# Altium footprint library Sucaiku.PcbLib: 51 footprints (part 3 of 4)
Each footprint in its own frame and in the unit in brackets; x right, y up, seen from the top. Pads: shape width x height; smd on the part's side, far side on the other; paste and mask are expansions set on the pad; w line width, h text height; cw(c..) or ccw(c..) is an arc to the next point about the centre after c.
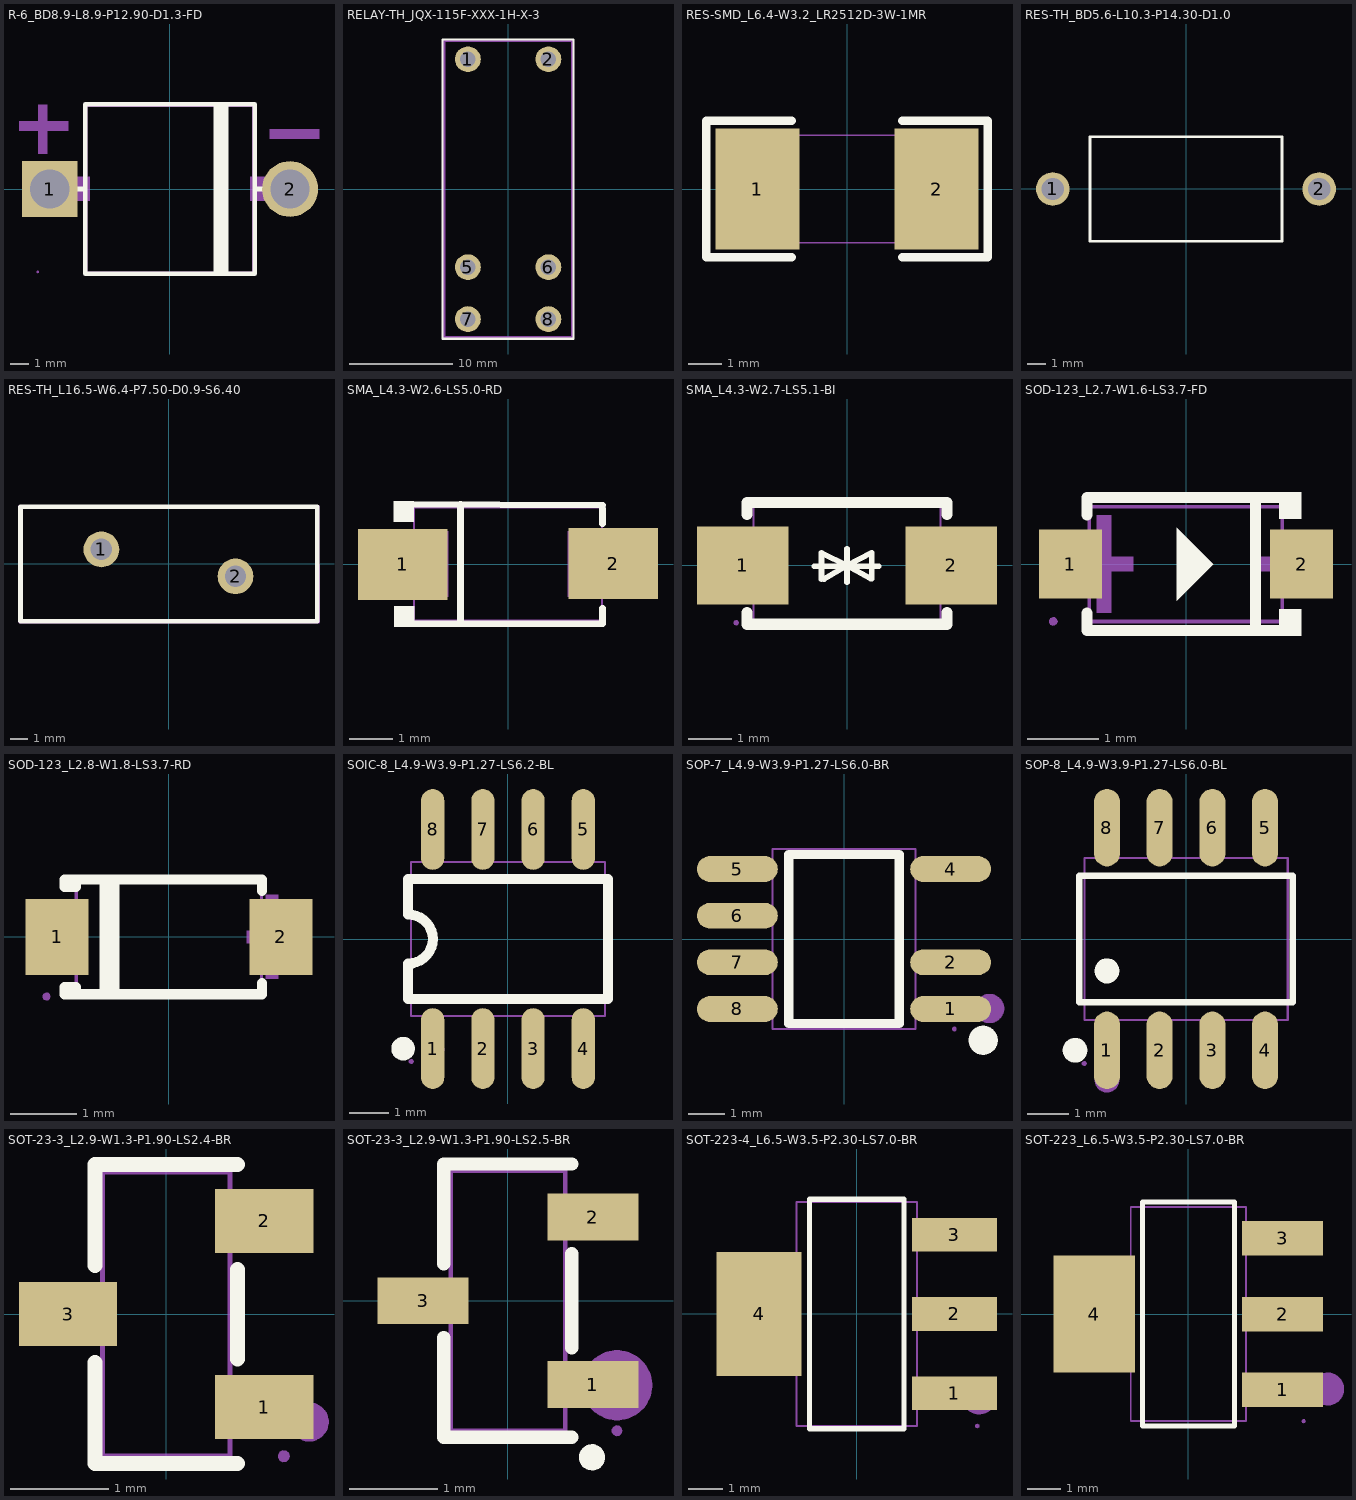
[diagram p2: the footprints below, top view; thin cyan lines are the x and y axes]

## R-6_BD8.9-L8.9-P12.90-D1.3-FD [mil]
pads (2):
  rect 118.1x118.1 hole 82.7: 1(-253.9,0)
  round 118.1 hole 82.7: 2(253.9,0)
Top Overlay:
  lines w10: -220.5,0 -179.1,0 ; 96.9,-179.1 96.9,179.2 ; 105.1,-179.1 105.1,179.2 ; 111.9,-179.2 111.9,179.1 ; 118.9,-179.1 118.9,179.2 ; 180.3,0 220.5,0 ; -179.1,-179.1 179.1,-179.1 179.1,179.2 -179.1,179.2 -179.1,-179.1
Mechanical 6:
  region: -278.7,74.4 -278.7,178.4 -259,178.4 -259,74.4 -260.2,74.4
  region: -318.9,142.9 -215,142.9 -215,123.3 -318.9,123.3 -318.9,124.4
  region: 211,126 315,126 315,106.3 211,106.3 211,107.5
Mechanical 7:
  lines w2: -175.2,-175.2 175.2,-175.2 175.2,175.2 -175.2,175.2 -175.2,-175.2
Mechanical 8:
  region: -277.2,-175.2 -277.5,-176.5 -278.5,-177.3 -279.9,-177.5 -281.1,-177 -281.8,-175.8 -281.8,-174.5 -281.1,-173.4 -279.9,-172.8 -278.5,-173 -277.5,-173.9
Mechanical 9:
  region: 279.5,0 279.2,-4.4 278,-8.7 276.1,-12.8 273.6,-16.4 270.4,-19.6 266.7,-22.1 262.7,-24 258.4,-25.2 253.9,-25.6 249.5,-25.2 245.2,-24 241.2,-22.1 237.5,-19.6 234.3,-16.4 231.8,-12.8 229.9,-8.7 228.7,-4.4 228.4,0 228.7,4.5 229.9,8.8 231.8,12.8 234.3,16.5 237.5,19.6 241.2,22.2 245.2,24.1 249.5,25.2 253.9,25.6 258.4,25.2 262.7,24.1 266.7,22.2 270.4,19.6 273.6,16.5 276.1,12.8 278,8.8 279.2,4.5
  region: -228.3,0 -228.7,-4.4 -229.9,-8.7 -231.8,-12.8 -234.3,-16.4 -237.5,-19.6 -241.1,-22.1 -245.2,-24 -249.5,-25.2 -253.9,-25.6 -258.4,-25.2 -262.7,-24 -266.7,-22.1 -270.4,-19.6 -273.5,-16.4 -276.1,-12.8 -278,-8.7 -279.1,-4.4 -279.5,0 -279.1,4.5 -278,8.8 -276.1,12.8 -273.5,16.5 -270.4,19.6 -266.7,22.2 -262.7,24.1 -258.4,25.2 -253.9,25.6 -249.5,25.2 -245.2,24.1 -241.1,22.2 -237.5,19.6 -234.3,16.5 -231.8,12.8 -229.9,8.8 -228.7,4.5
Mechanical 10:
  region: 280.2,-25.2 169.9,-25.2 169.9,26 280.2,26
  region: -169.5,-25.3 -279.7,-25.3 -279.7,25.8 -169.5,25.8

## RELAY-TH_JQX-115F-XXX-1H-X-3 [mil]
pads (6):
  round 98.4 hole 59.1: 1(-153.6,496) 2(153.5,496) 5(-153.6,-297.7) 6(153.5,-297.7) 7(-153.6,-496.1) 8(153.5,-496.1)
Top Overlay:
  lines w8: -250,-570.9 -250,570.8 250,570.8 250,-570.9 -250,-570.9
Mechanical 6:
  region: -241.1,566.9 -241.1,-562 241,-562 241,561.9 -235.1,561.9 -237,562.3 -238.6,563.3 -239.7,565 -240.1,566.9 -239.7,568.8 -238.6,570.4 -237,571.5 -235.1,571.9 246,571.9 247.9,571.5 249.5,570.4 250.6,568.8 251,566.9 251,-567 250.6,-568.9 249.5,-570.5 247.9,-571.6 246,-572 -246.1,-572 -248,-571.6 -249.6,-570.5 -250.7,-568.9 -251.1,-567 -251.1,566.9 -250.7,568.8 -249.6,570.4 -248,571.5 -246.1,571.9 -244.2,571.5 -242.6,570.4 -241.5,568.8
Mechanical 7:
  lines w2: -250,-570.9 249.9,-570.9 249.9,570.8 -250,570.8 -250,-570.9
Mechanical 8:
  region: -247.7,570.8 -248.1,569.5 -249.1,568.7 -250.4,568.5 -251.6,569 -252.3,570.2 -252.3,571.5 -251.6,572.6 -250.4,573.2 -249.1,573 -248.1,572.1
Mechanical 9:
  region: 137.7,-307.5 137.7,-287.9 169.2,-287.9 169.2,-307.5
  region: 137.7,-505.9 137.7,-486.3 169.2,-486.3 169.2,-505.9
  region: -169.3,-505.9 -169.3,-486.3 -137.8,-486.3 -137.8,-505.9
  region: -169.3,-307.5 -169.3,-287.9 -137.8,-287.9 -137.8,-307.5
  region: -169.3,486.2 -169.3,505.8 -137.8,505.8 -137.8,486.2
  region: 137.7,486.2 137.7,505.8 169.2,505.8 169.2,486.2

## RES-SMD_L6.4-W3.2_LR2512D-3W-1MR [mil]
pads (2):
  rect 98.4x141.7 smd: 1(-105,0) 2(105,0)
Top Overlay:
  lines w10: -65,-80 -165,-80 -165,80 -65,80 ; 65,-80 165,-80 165,80 65,80
Mechanical 7:
  lines w2: -126,-63 126,-63 126,63 -126,63 -126,-63
Mechanical 8:
  region: -123.6,-63 -124,-64.3 -125,-65.2 -126.3,-65.4 -127.5,-64.8 -128.3,-63.7 -128.3,-62.4 -127.5,-61.2 -126.3,-60.7 -125,-60.9 -124,-61.8
Mechanical 9:
  region: -66.9,63 -66.9,-63 -126,-63 -126,63
  region: 126,63 126,-63 66.9,-63 66.9,63

## RES-TH_BD5.6-L10.3-P14.30-D1.0 [mil]
pads (2):
  round 70.9 hole 47.2: 1(-281.5,0) 2(281.5,0)
Top Overlay:
  lines w6: -202.7,-110.3 202.8,-110.3 202.8,110.2 -202.7,110.2 -202.7,-110.3

## RES-TH_L16.5-W6.4-P7.50-D0.9-S6.40 [mil]
pads (2):
  round 78.7 hole 47.2: 1(-148.7,31.9) 2(146.6,-27.2)
Top Overlay:
  lines w10: -197.4,126 326.8,126 326.8,-126 196.1,-126 ; -196.1,126 -326.8,126 -326.8,-126 200.8,-126
Mechanical 7:
  lines w2: -330.1,-129.8 330.4,-129.8 330.1,129.5 -330.1,129.5 -330.1,-129.8

## SMA_L4.3-W2.6-LS5.0-RD [mil]
pads (2):
  rect 80.6x63.8 smd: 1(-94.7,-0.3) 2(94.6,0.4)
Top Overlay:
  region: -85,56.7 -85,37.9 -103,37.9 -103,56.7
  region: -84.5,-56.6 -84.5,-37.8 -102.5,-37.8 -102.5,-56.6
  lines w6: -99.5,53.7 85,53 ; -98.6,-53.6 85.2,-53.6 ; -42.8,-53.6 -42.8,53.7 ; 85,-53.6 85,-39.8 ; 85,36.2 85,50
Mechanical 6:
  region: -95.8,-3.8 -95.8,3.8 -65.4,3.8 -65.4,-3.8
  region: 95.7,-3.8 95.7,3.8 65.3,3.8 65.3,-3.8
  region: 84.3,-25.3 84.3,25.4 76.7,25.4 76.7,-25.3
Mechanical 7:
  lines w2: -84.7,-51.1 -84.7,51.2 84.6,51.2 84.6,-51.1 -84.7,-51.1
Mechanical 8:
  region: -96.1,-51.1 -96.5,-52.4 -97.5,-53.3 -98.8,-53.5 -100,-52.9 -100.7,-51.8 -100.7,-50.5 -100,-49.3 -98.8,-48.8 -97.5,-49 -96.5,-49.9
Mechanical 9:
  region: 98.4,-29.5 98.4,29.6 53.5,29.6 53.5,-29.5
  region: -98.5,29.6 -98.5,-29.5 -53.6,-29.5 -53.6,29.6

## SMA_L4.3-W2.7-LS5.1-BI [mil]
pads (2):
  rect 82.7x70.9 smd: 1(-94.5,0) 2(94.5,0)
Top Overlay:
  lines w5: -29.8,-0.5 28.8,-0.5 ; -23.1,-12.3 -23.1,11.4 0,0 ; -20.8,-12.3 0,0 ; 0,-15 0,0 ; 0,15 0,0 ; 21.3,-11.9 0,0 ; 22.5,-11.9 22.5,11.7 0,0
  lines w10: -90.5,-42.6 -90.5,-53.2 90.6,-53.2 90.6,-42.6 ; -90.5,46.4 -90.5,57 90.6,57 90.6,46.4
Mechanical 7:
  lines w2: -84.6,-53.2 -84.6,53.1 84.6,53.1 84.6,-53.2 -84.6,-53.2
Mechanical 8:
  region: -98,-52 -98.4,-53.3 -99.4,-54.1 -100.7,-54.3 -101.9,-53.8 -102.6,-52.7 -102.6,-51.3 -101.9,-50.2 -100.7,-49.7 -99.4,-49.8 -98.4,-50.7
Mechanical 9:
  region: -100.4,-28.6 -100.4,28.5 -55.5,28.5 -55.5,-28.6
  region: 55.5,-28.6 55.5,28.5 100.4,28.5 100.4,-28.6

## SOD-123_L2.7-W1.6-LS3.7-FD [mil]
pads (2):
  rect 34.6x37.8 smd: 1(-63.4,0) 2(63.4,0)
Top Overlay:
  region: 51.2,-39.4 51.2,-24.9 63.2,-24.9 63.2,-39.4
  region: 51.2,39.5 51.2,24.9 63.2,24.9 63.2,39.5
  region: 15,0 -5,20 -5,-20
  lines w6: -54.2,-26.9 -54.2,-36.4 54.2,-36.4 ; -54.2,26.9 -54.2,36.5 54.2,36.5 ; 38.1,-36.4 38.1,36.5
Mechanical 6:
  region: 71.1,-4 71.1,4.1 38.9,4.1 38.9,-4
  region: -61.1,-4 -61.1,4.1 -28.9,4.1 -28.9,-4
  region: -49,-26.7 -49,26.8 -41,26.8 -41,-26.7
Mechanical 7:
  lines w2: -53,-31.5 52.9,-31.5 52.9,31.5 -53,31.5 -53,-31.5
Mechanical 8:
  region: -70.5,-31.5 -70.9,-32.7 -71.9,-33.6 -73.2,-33.8 -74.4,-33.2 -75.1,-32.1 -75.1,-30.8 -74.4,-29.7 -73.2,-29.1 -71.9,-29.3 -70.9,-30.2
Mechanical 9:
  region: 72.9,-11.8 59.1,-11.8 59.1,11.9 72.9,11.9
  region: -72.9,11.9 -59.1,11.9 -59.1,-11.8 -72.9,-11.8
Mechanical 10:
  region: 59.5,-11.8 59.5,11.9 52.7,11.9 52.7,-11.8
  region: -59.5,11.9 -59.5,-11.8 -52.8,-11.8 -52.8,11.9

## SOD-123_L2.8-W1.8-LS3.7-RD [mil]
pads (2):
  rect 37.4x45.3 smd: 1(-66.6,0) 2(66.7,0)
Top Overlay:
  lines w6: -38.2,-34.1 -38.2,34.1 ; -32.5,-34.1 -32.5,34.1 ; 55.4,-27.5 55.4,-34.1 -55.3,-34.1 ; 55.4,27.4 55.4,34.1 -55.3,34.1 ; -55.3,-34.1 -62.2,-34.1 -62.2,-29.8 -55.3,-29.8 -55.3,-34.1 ; -55.3,34.1 -62.2,34.1 -62.2,29.7 -55.3,29.7 -55.3,34.1
Mechanical 6:
  region: -79.9,3.7 -79.9,-3.8 -50,-3.8 -50,3.7
  region: 76.2,3.8 76.2,-3.7 46.4,-3.7 46.4,3.8
  region: 65,25 65,-24.8 57.6,-24.8 57.6,25
Mechanical 7:
  lines w2: -55.1,-35.5 -55.1,35.4 55.1,35.4 55.1,-35.5 -55.1,-35.5
Mechanical 8:
  region: -70.5,-35.5 -70.8,-36.7 -71.8,-37.6 -73.2,-37.8 -74.4,-37.3 -75.1,-36.1 -75.1,-34.8 -74.4,-33.7 -73.2,-33.1 -71.8,-33.3 -70.8,-34.2
Mechanical 9:
  region: -72.8,-18.3 -72.8,18.3 -51.2,18.3 -51.2,-18.3
  region: 72.9,-18.3 72.9,18.3 51.2,18.3 51.2,-18.3

## SOIC-8_L4.9-W3.9-P1.27-LS6.2-BL [mil]
pads (8):
  oval 23.1x80.5 smd: 1(-75,-109.1) 2(-25,-109.1) 3(25,-109.1) 4(75,-109.1) 5(75,109.2) 6(25,109.2) 7(-25,109.2) 8(-75,109.2)
Top Overlay:
  lines w10: -75.4,-59.9 -99.4,-59.9 -99.4,-24.5 -95.2,-24.1 -91,-23 -87.2,-21.2 -83.7,-18.7 -80.7,-15.7 -78.2,-12.2 -76.4,-8.3 -75.3,-4.2 -74.9,0 -75.3,4.3 -76.4,8.4 -78.2,12.3 -80.7,15.8 -83.7,18.8 -87.2,21.2 -91.1,23 -95.2,24.1 -99.4,24.5 -99.4,59.9 -75.4,59.9 ; -74.5,-59.9 -25.4,-59.9 ; -74.5,59.9 -25.4,59.9 ; -24.5,-59.9 24.6,-59.9 ; -24.5,59.9 24.6,59.9 ; 25.5,-59.9 74.6,-59.9 ; 25.5,59.9 74.6,59.9 ; 75.5,-59.9 99.5,-59.9 99.5,59.9 75.5,59.9
  lines w11.8: -110.3,-109.1 -109.9,-111.2 -108.9,-112.9 -107.3,-114.3 -105.4,-115 -103.3,-115 -101.4,-114.3 -99.8,-112.9 -98.8,-111.2 -98.4,-109.1 -98.8,-107.1 -99.8,-105.3 -101.4,-104 -103.3,-103.3 -105.4,-103.3 -107.3,-104 -108.9,-105.3 -109.9,-107.1 -110.3,-109.1
Mechanical 6:
  lines w11.8: -80.9,-110 -80.5,-112 -79.5,-113.8 -77.9,-115.1 -76,-115.8 -73.9,-115.8 -72,-115.1 -70.4,-113.8 -69.4,-112 -69.1,-110 -69.4,-108 -70.4,-106.2 -72,-104.9 -73.9,-104.2 -76,-104.2 -77.9,-104.9 -79.5,-106.2 -80.5,-108 -80.9,-110
Mechanical 7:
  lines w2: -96.4,-76.8 -96.4,76.8 96.5,76.8 96.5,-76.8 -96.4,-76.8
Mechanical 8:
  region: -94.1,-122 -94.4,-123.3 -95.4,-124.2 -96.8,-124.4 -98,-123.8 -98.7,-122.7 -98.7,-121.4 -98,-120.3 -96.8,-119.7 -95.4,-119.9 -94.4,-120.8
Mechanical 9:
  region: -82.8,-122 -82.8,-89.6 -67.1,-89.6 -67.1,-122
  region: -32.8,-122 -32.8,-89.6 -17.1,-89.6 -17.1,-122
  region: 17.2,-122 17.2,-89.6 32.9,-89.6 32.9,-122
  region: 67.2,-122 67.2,-89.6 82.9,-89.6 82.9,-122
  region: -82.8,89.6 -82.8,122.1 -67.1,122.1 -67.1,89.6
  region: -32.8,89.6 -32.8,122.1 -17.1,122.1 -17.1,89.6
  region: 17.2,89.6 17.2,122.1 32.9,122.1 32.9,89.6
  region: 67.2,89.6 67.2,122.1 82.9,122.1 82.9,89.6
Mechanical 10:
  region: -82.8,-90 -82.8,-76.4 -67.1,-76.4 -67.1,-90
  region: -32.8,-90 -32.8,-76.4 -17.1,-76.4 -17.1,-90
  region: 17.2,-90 17.2,-76.4 32.9,-76.4 32.9,-90
  region: 67.2,-90 67.2,-76.4 82.9,-76.4 82.9,-90
  region: -82.8,76.4 -82.8,90 -67.1,90 -67.1,76.4
  region: -32.8,76.4 -32.8,90 -17.1,90 -17.1,76.4
  region: 17.2,76.4 17.2,90 32.9,90 32.9,76.4
  region: 67.2,76.4 67.2,90 82.9,90 82.9,76.4

## SOP-7_L4.9-W3.9-P1.27-LS6.0-BR [mil]
pads (7):
  oval 86.6x27.6 smd: 1(114.2,-75) 2(114.2,-25) 4(114.2,75) 5(-114.3,75) 6(-114.3,25) 7(-114.3,-25) 8(-114.3,-75)
Top Overlay:
  lines w10: -59.2,-90.6 59.2,-90.6 59.2,90.5 19.6,90.5 -59.2,90.5 -59.2,-90.6
  lines w15.7: 156.9,-108.6 156.5,-111 155.3,-113.2 153.6,-114.9 151.4,-116 149,-116.4 146.5,-116 144.4,-114.9 142.6,-113.1 141.5,-111 141.1,-108.5 141.5,-106.1 142.6,-103.9 144.4,-102.2 146.5,-101 149,-100.7 151.4,-101 153.6,-102.1 155.3,-103.9 156.5,-106 156.9,-108.5
Mechanical 6:
  lines w15.7: 148.1,-74.5 148.5,-77 149.6,-79.1 151.4,-80.9 153.6,-82 156,-82.4 158.4,-82 160.6,-80.9 162.4,-79.1 163.5,-77 163.9,-74.5 163.5,-72.1 162.4,-69.9 160.6,-68.2 158.4,-67 156,-66.7 153.6,-67 151.4,-68.2 149.6,-69.9 148.5,-72.1 148.1,-74.5
Mechanical 7:
  lines w2: -76.8,-96.5 76.7,-96.5 76.7,96.5 -76.8,96.5 -76.8,-96.5
Mechanical 8:
  region: 120.4,-96.5 120.1,-97.7 119,-98.6 117.7,-98.8 116.5,-98.2 115.8,-97.1 115.8,-95.8 116.5,-94.7 117.7,-94.1 119,-94.3 120.1,-95.2
Mechanical 9:
  region: 85.2,-66.9 118.1,-66.9 118.1,-83.1 85.2,-83.1
  region: 85.2,-16.9 118.1,-16.9 118.1,-33.1 85.2,-33.1
  region: 85.2,83.1 118.1,83.1 118.1,66.9 85.2,66.9
  region: -118.2,-66.9 -85.3,-66.9 -85.3,-83.1 -118.2,-83.1
  region: -118.2,-16.9 -85.3,-16.9 -85.3,-33.1 -118.2,-33.1
  region: -118.2,33.1 -85.3,33.1 -85.3,16.9 -118.2,16.9
  region: -118.2,83.1 -85.3,83.1 -85.3,66.9 -118.2,66.9
Mechanical 10:
  region: 76.3,-66.9 85.6,-66.9 85.6,-83.1 76.3,-83.1
  region: 76.3,-16.9 85.6,-16.9 85.6,-33.1 76.3,-33.1
  region: 76.3,83.1 85.6,83.1 85.6,66.9 76.3,66.9
  region: -85.7,-66.9 -76.4,-66.9 -76.4,-83.1 -85.7,-83.1
  region: -85.7,-16.9 -76.4,-16.9 -76.4,-33.1 -85.7,-33.1
  region: -85.7,33.1 -76.4,33.1 -76.4,16.9 -85.7,16.9
  region: -85.7,83.1 -76.4,83.1 -76.4,66.9 -85.7,66.9

## SOP-8_L4.9-W3.9-P1.27-LS6.0-BL [mil]
pads (8):
  oval 24.8x73.4 smd: 1(-75,-105.6) 2(-25,-105.6) 3(25,-105.6) 4(75,-105.6) 5(75,105.6) 6(25,105.6) 7(-25,105.6) 8(-75,105.6)
Top Overlay:
  lines w6: -101.4,-59.9 -101.4,59.9 101.4,59.9 101.4,-59.9 -101.4,-59.9
  lines w11.8: -111.1,-105.6 -110.7,-107.6 -109.7,-109.4 -108.1,-110.7 -106.2,-111.4 -104.2,-111.4 -102.2,-110.7 -100.7,-109.4 -99.6,-107.6 -99.3,-105.6 -99.6,-103.6 -100.7,-101.8 -102.2,-100.5 -104.2,-99.8 -106.2,-99.8 -108.1,-100.5 -109.7,-101.8 -110.7,-103.6 -111.1,-105.6 ; -80.9,-30.3 -80.5,-32.3 -79.5,-34.1 -77.9,-35.4 -76,-36.1 -74,-36.1 -72,-35.4 -70.5,-34.1 -69.4,-32.3 -69.1,-30.3 -69.4,-28.2 -70.5,-26.5 -72,-25.1 -74,-24.4 -76,-24.4 -77.9,-25.1 -79.5,-26.5 -80.5,-28.2 -80.9,-30.3
Mechanical 6:
  lines w11.8: -80.9,-133.8 -80.5,-135.9 -79.5,-137.6 -77.9,-139 -76,-139.7 -74,-139.7 -72,-139 -70.5,-137.6 -69.4,-135.9 -69.1,-133.8 -69.4,-131.8 -70.5,-130 -72,-128.7 -74,-128 -76,-128 -77.9,-128.7 -79.5,-130 -80.5,-131.8 -80.9,-133.8
Mechanical 7:
  lines w2: -96.4,-76.8 -96.4,76.8 96.5,76.8 96.5,-76.8 -96.4,-76.8
Mechanical 8:
  region: -94.1,-118.1 -94.4,-119.4 -95.5,-120.2 -96.8,-120.4 -98,-119.9 -98.7,-118.8 -98.7,-117.4 -98,-116.3 -96.8,-115.8 -95.5,-115.9 -94.4,-116.8
Mechanical 9:
  region: 66.6,92.5 66.6,118.1 83.5,118.1 83.5,92.5
  region: 16.6,92.5 16.6,118.1 33.5,118.1 33.5,92.5
  region: -33.4,92.5 -33.4,118.1 -16.5,118.1 -16.5,92.5
  region: -83.4,92.5 -83.4,118.1 -66.5,118.1 -66.5,92.5
  region: 66.6,-118.1 66.6,-92.5 83.5,-92.5 83.5,-118.1
  region: 16.6,-118.1 16.6,-92.5 33.5,-92.5 33.5,-118.1
  region: -33.4,-118.1 -33.4,-92.5 -16.5,-92.5 -16.5,-118.1
  region: -83.4,-118.1 -83.4,-92.5 -66.5,-92.5 -66.5,-118.1
Mechanical 10:
  region: 66.6,76.4 66.6,92.9 83.5,92.9 83.5,76.4
  region: 16.6,76.4 16.6,92.9 33.5,92.9 33.5,76.4
  region: -33.4,76.4 -33.4,92.9 -16.5,92.9 -16.5,76.4
  region: -83.4,76.4 -83.4,92.9 -66.5,92.9 -66.5,76.4
  region: 66.6,-92.9 66.6,-76.4 83.5,-76.4 83.5,-92.9
  region: 16.6,-92.9 16.6,-76.4 33.5,-76.4 33.5,-92.9
  region: -33.4,-92.9 -33.4,-76.4 -16.5,-76.4 -16.5,-92.9
  region: -83.4,-92.9 -83.4,-76.4 -66.5,-76.4 -66.5,-92.9

## SOT-23-3_L2.9-W1.3-P1.90-LS2.4-BR [mil]
pads (3):
  rect 39.4x25.6 smd: 1(39.4,-37.4) 2(39.4,37.4) 3(-39.4,0)
Top Overlay:
  lines w6: -28.6,-19.5 -28.6,-60.1 28.6,-60.1 ; -28.6,19.4 -28.6,60.1 28.6,60.1 ; 28.6,-18 28.6,17.9
Mechanical 6:
  lines w7.9: 53.5,-43.3 53.9,-41.6 55,-40.3 56.6,-39.5 58.4,-39.5 59.9,-40.3 61,-41.6 61.4,-43.3 61,-45.1 59.9,-46.4 58.4,-47.2 56.6,-47.2 55,-46.4 53.9,-45.1 53.5,-43.3
Mechanical 7:
  lines w2: -25.6,-57.1 25.6,-57.1 25.6,57.1 -25.6,57.1 -25.6,-57.1
Mechanical 8:
  region: 49.6,-57.1 49.2,-58.4 48.2,-59.3 46.9,-59.5 45.7,-58.9 45,-57.8 45,-56.5 45.7,-55.3 46.9,-54.8 48.2,-55 49.2,-55.8
Mechanical 9:
  region: -47.2,-8.5 -47.2,8.4 -35.4,8.4 -35.4,-8.5
  region: 35.4,-45.9 35.4,-29 47.2,-29 47.2,-45.9
  region: 35.4,28.9 35.4,45.8 47.2,45.8 47.2,28.9
Mechanical 10:
  region: -35.8,-8.5 -35.8,8.4 -25.2,8.4 -25.2,-8.5
  region: 25.2,-45.9 25.2,-29 35.8,-29 35.8,-45.9
  region: 25.2,28.9 25.2,45.8 35.8,45.8 35.8,28.9

## SOT-23-3_L2.9-W1.3-P1.90-LS2.5-BR [mil]
pads (3):
  rect 40.5x20.9 smd: 1(38,-37.4) 2(38,37.4) 3(-37.9,0)
Top Overlay:
  lines w5.9: 34.7,-70.7 34.7,-69.2 35.3,-68 36.5,-67.2 37.9,-67 39.2,-67.5 40.1,-68.6 40.5,-69.9 40.1,-71.3 39.2,-72.4 37.9,-72.9 36.5,-72.7 35.3,-71.9 34.7,-70.7
  lines w6: -28.6,-16.4 -28.6,-61 28.6,-61 ; -28.6,16.5 -28.6,61.1 28.6,61.1 ; 28.6,-20.9 28.6,21
Mechanical 6:
  lines w15.7: 40.9,-37.7 41.3,-35.3 42.4,-33.1 44.2,-31.4 46.4,-30.2 48.8,-29.9 51.2,-30.2 53.4,-31.4 55.2,-33.1 56.3,-35.3 56.7,-37.7 56.3,-40.2 55.2,-42.4 53.4,-44.1 51.2,-45.2 48.8,-45.6 46.4,-45.2 44.2,-44.1 42.4,-42.4 41.3,-40.2 40.9,-37.7
Mechanical 7:
  lines w2: -25.6,-58 25.6,-58 25.6,58.1 -25.6,58.1 -25.6,-58
Mechanical 8:
  region: 51.1,-58 50.7,-59.3 49.7,-60.2 48.4,-60.4 47.2,-59.8 46.5,-58.7 46.5,-57.4 47.2,-56.3 48.4,-55.7 49.7,-55.9 50.7,-56.8
Mechanical 9:
  region: -48.7,7.9 -33,7.9 -33,-7.8 -48.7,-7.8
  region: 48.7,45.3 33,45.3 33,29.6 48.7,29.6
  region: 48.7,-29.5 33,-29.5 33,-45.2 48.7,-45.2
Mechanical 10:
  region: -33.3,7.9 -25.2,7.9 -25.2,-7.8 -33.3,-7.8
  region: 33.4,45.3 25.2,45.3 25.2,29.6 33.4,29.6
  region: 33.4,-29.5 25.2,-29.5 25.2,-45.2 33.4,-45.2

## SOT-223-4_L6.5-W3.5-P2.30-LS7.0-BR [mil]
pads (4):
  rect 97.2x38.6 smd: 1(111.6,-90.6) 2(111.6,0) 3(111.6,90.5)
  rect 97.2x141.7 smd: 4(-111.6,0)
Top Overlay:
  lines w6: -54,-131 54,-131 54,130.9 -54,130.9 -54,-131
Mechanical 6:
  lines w19.7: 130.2,-96.4 130.2,-93.7 131,-91.1 132.3,-88.8 134.3,-87 136.7,-85.8 139.3,-85.2 142,-85.4 144.5,-86.3 146.7,-87.8 148.4,-89.9 149.5,-92.4 149.8,-95 149.5,-97.7 148.4,-100.2 146.7,-102.2 144.5,-103.8 142,-104.7 139.3,-104.9 136.7,-104.3 134.3,-103.1 132.3,-101.2 131,-99 130.2,-96.4
Mechanical 7:
  lines w2: -68.9,-128 68.9,-128 68.9,127.9 -68.9,127.9 -68.9,-128
Mechanical 8:
  region: 140.1,-128 139.8,-129.3 138.8,-130.1 137.4,-130.3 136.2,-129.8 135.5,-128.7 135.5,-127.3 136.2,-126.2 137.4,-125.6 138.8,-125.8 139.8,-126.7
Mechanical 9:
  region: -100.4,-59.1 -100.4,59 -137.8,59 -137.8,-59.1
  region: 100.4,76.7 100.4,104.3 137.8,104.3 137.8,76.7
  region: 100.4,-13.8 100.4,13.7 137.8,13.7 137.8,-13.8
  region: 100.4,-104.4 100.4,-76.8 137.8,-76.8 137.8,-104.4
Mechanical 10:
  region: -100.8,-59.1 -100.8,59 -68.5,59 -68.5,-59.1
  region: 68.5,76.7 68.5,104.3 100.8,104.3 100.8,76.7
  region: 68.5,-13.8 68.5,13.7 100.8,13.7 100.8,-13.8
  region: 68.5,-104.4 68.5,-76.8 100.8,-76.8 100.8,-104.4

## SOT-223_L6.5-W3.5-P2.30-LS7.0-BR [mil]
pads (4):
  rect 97x41.3 smd: 1(112.5,-90.5) 2(112.5,0) 3(112.5,90.6)
  rect 97x139.4 smd: 4(-112.5,0)
Top Overlay:
  lines w6: -55,-133.9 54.9,-133.9 54.9,133.9 -55,133.9 -55,-133.9
Mechanical 6:
  lines w19.7: 156.7,-91 156.7,-88.3 157.4,-85.7 158.8,-83.4 160.8,-81.6 163.1,-80.3 165.8,-79.8 168.4,-80 171,-80.9 173.2,-82.4 174.8,-84.5 175.9,-87 176.3,-89.6 175.9,-92.3 174.8,-94.7 173.2,-96.8 171,-98.4 168.4,-99.3 165.8,-99.4 163.1,-98.9 160.8,-97.7 158.8,-95.8 157.4,-93.5 156.7,-91
Mechanical 7:
  lines w2: -68.9,-127.9 -68.9,128 68.8,128 68.8,-127.9 -68.9,-127.9
Mechanical 8:
  region: 140.1,-127.9 139.7,-129.2 138.7,-130.1 137.4,-130.3 136.2,-129.7 135.5,-128.6 135.5,-127.3 136.2,-126.2 137.4,-125.6 138.7,-125.8 139.7,-126.7
Mechanical 9:
  region: -137.8,-59 -137.8,59.1 -86.7,59.1 -86.7,-59
  region: 112.2,-104.3 112.2,-76.8 137.7,-76.8 137.7,-104.3
  region: 112.2,-13.8 112.2,13.8 137.7,13.8 137.7,-13.8
  region: 112.2,76.8 112.2,104.3 137.7,104.3 137.7,76.8
Mechanical 10:
  region: -87.1,-59 -87.1,59.1 -68.6,59.1 -68.6,-59
  region: 68.5,-104.3 68.5,-76.8 112.5,-76.8 112.5,-104.3
  region: 68.5,-13.8 68.5,13.8 112.5,13.8 112.5,-13.8
  region: 68.5,76.8 68.5,104.3 112.5,104.3 112.5,76.8